# Altium integrated library NSC ADC.IntLib: 493 symbols (part 12 of 17)
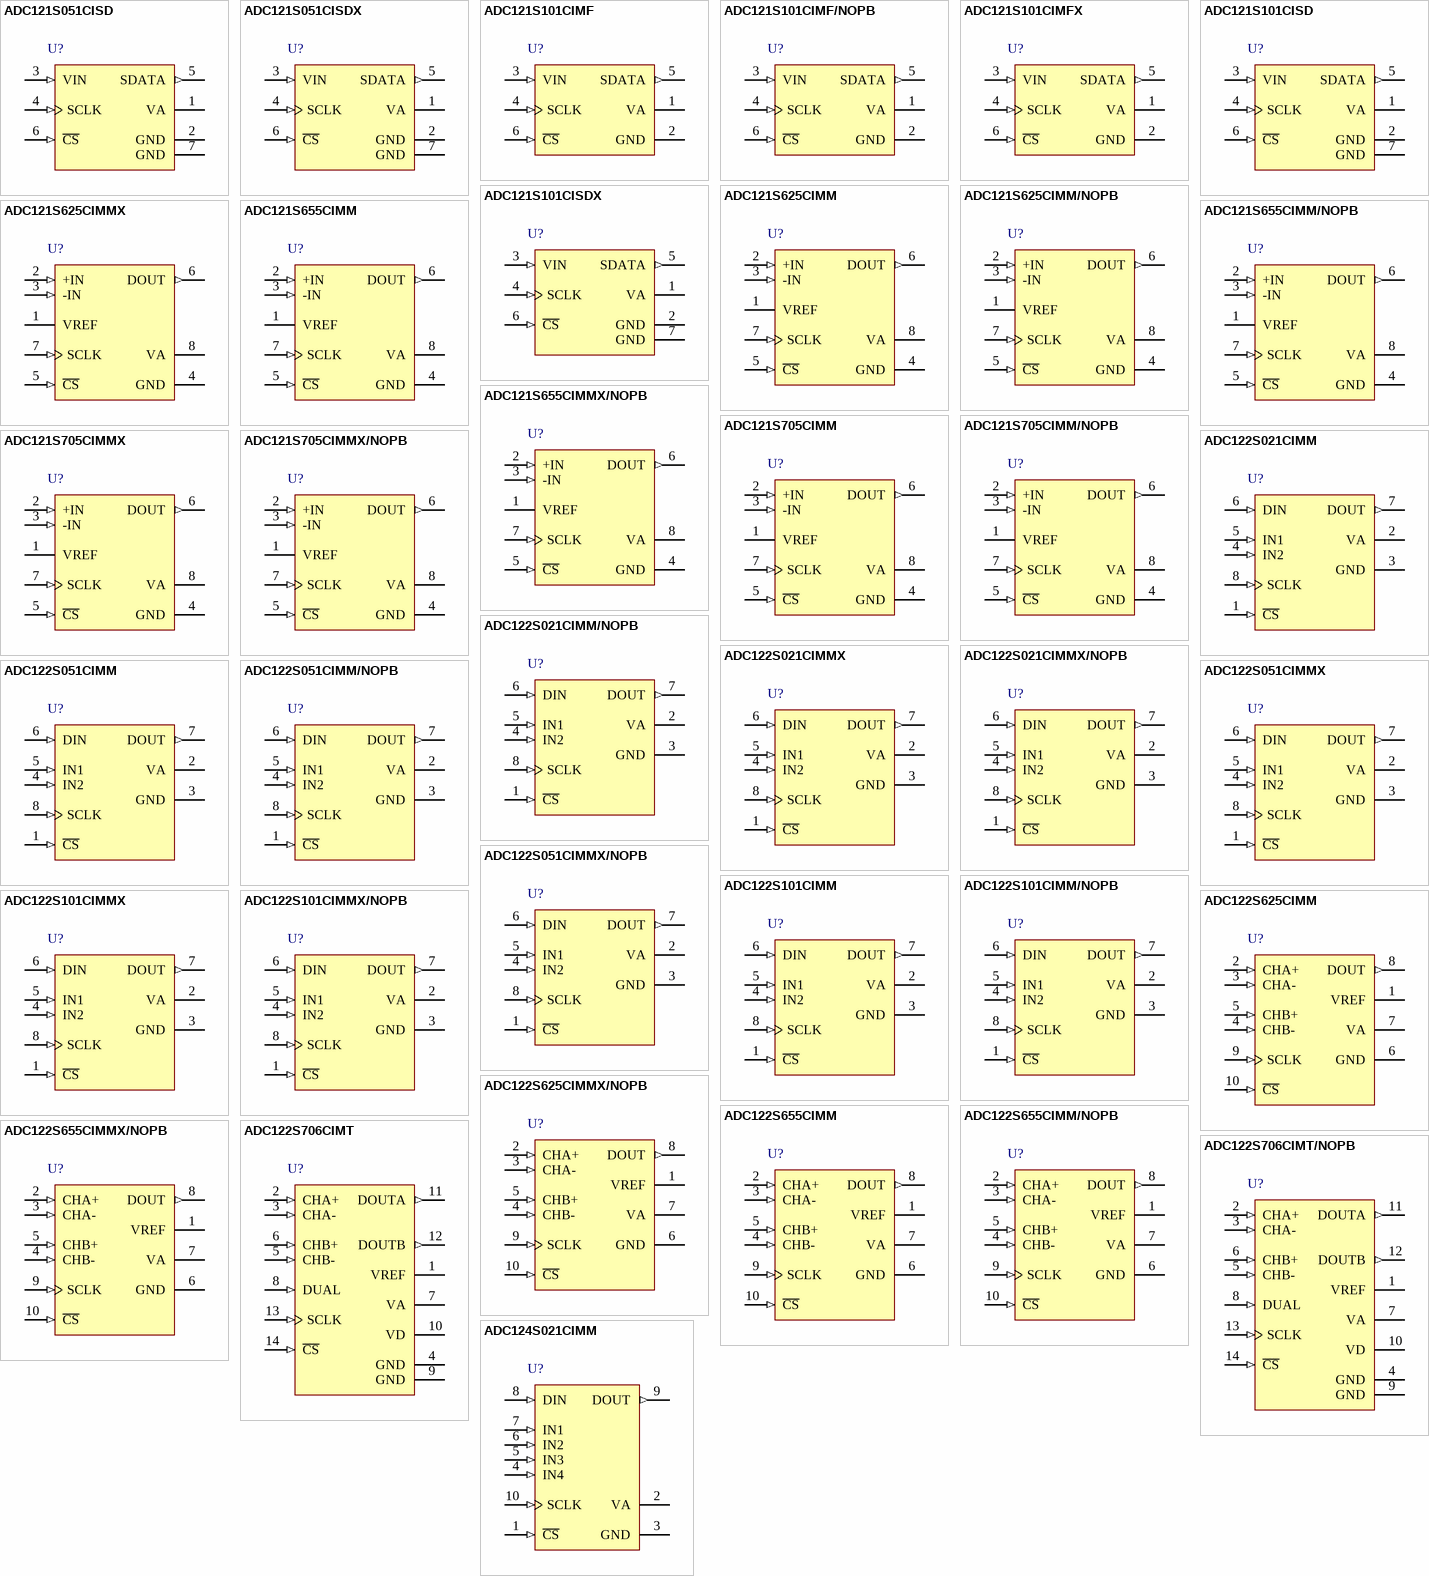
[diagram p47: symbols ADC121S051CISD to ADC124S021CIMM]

## ADC122S051CIMM
designator U?
2 Channel, 500 kSPS 12-Bit A/D Converter, 8-pin Mini SOIC; PartNumber: ADC122S051CIMM; Manufacturer: National Semiconductor; PackageTopMarking: ZXTT*X06C; PowerWise: Y; CompType: ADC IC; Published: 4-Dec-2008; DatasheetVersion: Jan-2010; PackageVersion: revF, Apr-2008; PackageReference: MUA08A; Publisher: Altium Limited; PackageDescription: MINI SOIC, .118 x .118 x .034in, 8 Lead, .0256in Pitch; Supplier 1: Farnell; Supplier Part Number 1: 1007995; RoHS: N; PinCount: 8; Code_JEDEC: MO-187-AA; ComponentLink1Description: ADC122S051 Datasheet; ComponentLink1URL: http://www.national.com/ds/AD/ADC122S051.pdf; ComponentLink2Description: ADC122S051 Web Page; ComponentLink2URL: http://www.national.com/pf/AD/ADC122S051.html; ComponentLink3Description: MUA08A Package Page; ComponentLink3URL: http://www.national.com/packaging/folders/mua08a.html
footprint MUA08A_N (TSOP, 8-Leads, Body 3x3mm, Pitch 0.65mm, IPC Medium Density)
footprint MUA08A_L (TSOP, 8-Leads, Body 3x3mm, Pitch 0.65mm, IPC High Density)
footprint MUA08A_M (TSOP, 8-Leads, Body 3x3mm, Pitch 0.65mm, IPC Low Density)
pins: 1 ~{CS} (in), 2 VA (power), 3 GND (power), 4 IN2 (in), 5 IN1 (in), 6 DIN (in), 7 DOUT (out), 8 SCLK (in)

## ADC122S051CIMM/NOPB
designator U?
2 Channel, 200 kSPS to 500 kSPS 12-Bit A/D Converter, 8-pin Mini SOIC, Pb-Free; PartNumber: ADC122S051CIMM/NOPB; Manufacturer: National Semiconductor; PackageTopMarking: ZXTT*X06C; PowerWise: Y; CompType: ADC IC; Published: 1-Mar-2010; DatasheetVersion: Jan-2010; PackageVersion: revF, Apr-2008; PackageReference: MUA08A; Publisher: Altium Limited; PackageDescription: MINI SOIC, .118 x .118 x .034in, 8 Lead, .0256in Pitch; Supplier 1: Digi-Key; Supplier Part Number 1: ADC122S051CIMMTR-ND; Supplier 2: Digi-Key; Supplier Part Number 2: ADC122S051CIMMCT-ND; Supplier 3: Digi-Key; Supplier Part Number 3: ADC122S051CIMMDKR-ND; RoHS: Y; PinCount: 8; Code_JEDEC: MO-187-AA; ComponentLink1Description: ADC122S051 Datasheet; ComponentLink1URL: http://www.national.com/ds/AD/ADC122S051.pdf; ComponentLink2Description: ADC122S051 Web Page; ComponentLink2URL: http://www.national.com/pf/AD/ADC122S051.html; ComponentLink3Description: MUA08A Package Page; ComponentLink3URL: http://www.national.com/packaging/folders/mua08a.html
footprint MUA08A_N (TSOP, 8-Leads, Body 3x3mm, Pitch 0.65mm, IPC Medium Density)
footprint MUA08A_L (TSOP, 8-Leads, Body 3x3mm, Pitch 0.65mm, IPC High Density)
footprint MUA08A_M (TSOP, 8-Leads, Body 3x3mm, Pitch 0.65mm, IPC Low Density)
pins: 1 ~{CS} (in), 2 VA (power), 3 GND (power), 4 IN2 (in), 5 IN1 (in), 6 DIN (in), 7 DOUT (out), 8 SCLK (in)

## ADC122S051CIMMX
designator U?
2 Channel, 200 kSPS to 500 kSPS 12-Bit A/D Converter, 8-pin Mini SOIC; PartNumber: ADC122S051CIMMX; Manufacturer: National Semiconductor; PackageTopMarking: ZXTT*X06C; PowerWise: Y; CompType: ADC IC; Published: 1-Mar-2010; DatasheetVersion: Jan-2010; PackageVersion: revF, Apr-2008; PackageReference: MUA08A; Publisher: Altium Limited; PackageDescription: MINI SOIC, .118 x .118 x .034in, 8 Lead, .0256in Pitch; RoHS: N; PinCount: 8; Code_JEDEC: MO-187-AA; ComponentLink1Description: ADC122S051 Datasheet; ComponentLink1URL: http://www.national.com/ds/AD/ADC122S051.pdf; ComponentLink2Description: ADC122S051 Web Page; ComponentLink2URL: http://www.national.com/pf/AD/ADC122S051.html; ComponentLink3Description: MUA08A Package Page; ComponentLink3URL: http://www.national.com/packaging/folders/mua08a.html
footprint MUA08A_N (TSOP, 8-Leads, Body 3x3mm, Pitch 0.65mm, IPC Medium Density)
footprint MUA08A_L (TSOP, 8-Leads, Body 3x3mm, Pitch 0.65mm, IPC High Density)
footprint MUA08A_M (TSOP, 8-Leads, Body 3x3mm, Pitch 0.65mm, IPC Low Density)
pins: 1 ~{CS} (in), 2 VA (power), 3 GND (power), 4 IN2 (in), 5 IN1 (in), 6 DIN (in), 7 DOUT (out), 8 SCLK (in)

## ADC122S051CIMMX/NOPB
designator U?
2 Channel, 200 kSPS to 500 kSPS 12-Bit A/D Converter, 8-pin Mini SOIC, Pb-Free; PartNumber: ADC122S051CIMMX/NOPB; Manufacturer: National Semiconductor; PackageTopMarking: ZXTT*X06C; PowerWise: Y; CompType: ADC IC; Published: 1-Mar-2010; DatasheetVersion: Jan-2010; PackageVersion: revF, Apr-2008; PackageReference: MUA08A; Publisher: Altium Limited; PackageDescription: MINI SOIC, .118 x .118 x .034in, 8 Lead, .0256in Pitch; Supplier 1: Digi-Key; Supplier Part Number 1: ADC122S051CIMMX-ND; RoHS: Y; PinCount: 8; Code_JEDEC: MO-187-AA; ComponentLink1Description: ADC122S051 Datasheet; ComponentLink1URL: http://www.national.com/ds/AD/ADC122S051.pdf; ComponentLink2Description: ADC122S051 Web Page; ComponentLink2URL: http://www.national.com/pf/AD/ADC122S051.html; ComponentLink3Description: MUA08A Package Page; ComponentLink3URL: http://www.national.com/packaging/folders/mua08a.html
footprint MUA08A_N (TSOP, 8-Leads, Body 3x3mm, Pitch 0.65mm, IPC Medium Density)
footprint MUA08A_L (TSOP, 8-Leads, Body 3x3mm, Pitch 0.65mm, IPC High Density)
footprint MUA08A_M (TSOP, 8-Leads, Body 3x3mm, Pitch 0.65mm, IPC Low Density)
pins: 1 ~{CS} (in), 2 VA (power), 3 GND (power), 4 IN2 (in), 5 IN1 (in), 6 DIN (in), 7 DOUT (out), 8 SCLK (in)

## ADC122S101CIMM
designator U?
2 Channel, 1MSPS 12-Bit A/D Converter, 8-pin Mini SOIC; PartNumber: ADC122S101CIMM; Manufacturer: National Semiconductor; PackageTopMarking: ZXTT*X24C; PowerWise: Y; CompType: ADC IC; Published: 4-Dec-2008; DatasheetVersion: Jan-2010; PackageVersion: revF, Apr-2008; PackageReference: MUA08A; Publisher: Altium Limited; PackageDescription: MINI SOIC, .118 x .118 x .034in, 8 Lead, .0256in Pitch; Supplier 1: Farnell; Supplier Part Number 1: 1007996; RoHS: N; PinCount: 8; Code_JEDEC: MO-187-AA; ComponentLink1Description: ADC122S101 Datasheet; ComponentLink1URL: http://www.national.com/ds/AD/ADC122S101.pdf; ComponentLink2Description: ADC122S101 Web Page; ComponentLink2URL: http://www.national.com/pf/AD/ADC122S101.html; ComponentLink3Description: MUA08A Package Page; ComponentLink3URL: http://www.national.com/packaging/folders/mua08a.html
footprint MUA08A_N (TSOP, 8-Leads, Body 3x3mm, Pitch 0.65mm, IPC Medium Density)
footprint MUA08A_L (TSOP, 8-Leads, Body 3x3mm, Pitch 0.65mm, IPC High Density)
footprint MUA08A_M (TSOP, 8-Leads, Body 3x3mm, Pitch 0.65mm, IPC Low Density)
pins: 1 ~{CS} (in), 2 VA (power), 3 GND (power), 4 IN2 (in), 5 IN1 (in), 6 DIN (in), 7 DOUT (out), 8 SCLK (in)

## ADC122S101CIMM/NOPB
designator U?
2 Channel, 500 kSPS to 1 MSPS 12-Bit A/D Converter, 8-pin Mini SOIC, Pb-Free; PartNumber: ADC122S101CIMM/NOPB; Manufacturer: National Semiconductor; PackageTopMarking: ZXTT*X24C; PowerWise: Y; CompType: ADC IC; Published: 1-Mar-2010; DatasheetVersion: Jan-2010; PackageVersion: revF, Apr-2008; PackageReference: MUA08A; Publisher: Altium Limited; PackageDescription: MINI SOIC, .118 x .118 x .034in, 8 Lead, .0256in Pitch; Supplier 1: Digi-Key; Supplier Part Number 1: ADC122S101CIMMTR-ND; Supplier 2: Digi-Key; Supplier Part Number 2: ADC122S101CIMMCT-ND; Supplier 3: Digi-Key; Supplier Part Number 3: ADC122S101CIMMDKR-ND; Supplier 4: Farnell; Supplier Part Number 4: 1149935; RoHS: Y; PinCount: 8; Code_JEDEC: MO-187-AA; ComponentLink1Description: ADC122S101 Datasheet; ComponentLink1URL: http://www.national.com/ds/AD/ADC122S101.pdf; ComponentLink2Description: ADC122S101 Web Page; ComponentLink2URL: http://www.national.com/pf/AD/ADC122S101.html; ComponentLink3Description: MUA08A Package Page; ComponentLink3URL: http://www.national.com/packaging/folders/mua08a.html
footprint MUA08A_N (TSOP, 8-Leads, Body 3x3mm, Pitch 0.65mm, IPC Medium Density)
footprint MUA08A_L (TSOP, 8-Leads, Body 3x3mm, Pitch 0.65mm, IPC High Density)
footprint MUA08A_M (TSOP, 8-Leads, Body 3x3mm, Pitch 0.65mm, IPC Low Density)
pins: 1 ~{CS} (in), 2 VA (power), 3 GND (power), 4 IN2 (in), 5 IN1 (in), 6 DIN (in), 7 DOUT (out), 8 SCLK (in)

## ADC122S101CIMMX
designator U?
2 Channel, 500 kSPS to 1 MSPS 12-Bit A/D Converter, 8-pin Mini SOIC; PartNumber: ADC122S101CIMMX; Manufacturer: National Semiconductor; PackageTopMarking: ZXTT*X24C; PowerWise: Y; CompType: ADC IC; Published: 1-Mar-2010; DatasheetVersion: Jan-2010; PackageVersion: revF, Apr-2008; PackageReference: MUA08A; Publisher: Altium Limited; PackageDescription: MINI SOIC, .118 x .118 x .034in, 8 Lead, .0256in Pitch; RoHS: N; PinCount: 8; Code_JEDEC: MO-187-AA; ComponentLink1Description: ADC122S101 Datasheet; ComponentLink1URL: http://www.national.com/ds/AD/ADC122S101.pdf; ComponentLink2Description: ADC122S101 Web Page; ComponentLink2URL: http://www.national.com/pf/AD/ADC122S101.html; ComponentLink3Description: MUA08A Package Page; ComponentLink3URL: http://www.national.com/packaging/folders/mua08a.html
footprint MUA08A_N (TSOP, 8-Leads, Body 3x3mm, Pitch 0.65mm, IPC Medium Density)
footprint MUA08A_L (TSOP, 8-Leads, Body 3x3mm, Pitch 0.65mm, IPC High Density)
footprint MUA08A_M (TSOP, 8-Leads, Body 3x3mm, Pitch 0.65mm, IPC Low Density)
pins: 1 ~{CS} (in), 2 VA (power), 3 GND (power), 4 IN2 (in), 5 IN1 (in), 6 DIN (in), 7 DOUT (out), 8 SCLK (in)

## ADC122S101CIMMX/NOPB
designator U?
2 Channel, 500 kSPS to 1 MSPS 12-Bit A/D Converter, 8-pin Mini SOIC, Pb-Free; PartNumber: ADC122S101CIMMX/NOPB; Manufacturer: National Semiconductor; PackageTopMarking: ZXTT*X24C; PowerWise: Y; CompType: ADC IC; Published: 1-Mar-2010; DatasheetVersion: Jan-2010; PackageVersion: revF, Apr-2008; PackageReference: MUA08A; Publisher: Altium Limited; PackageDescription: MINI SOIC, .118 x .118 x .034in, 8 Lead, .0256in Pitch; Supplier 1: Digi-Key; Supplier Part Number 1: ADC122S101CIMMX-ND; RoHS: Y; PinCount: 8; Code_JEDEC: MO-187-AA; ComponentLink1Description: ADC122S101 Datasheet; ComponentLink1URL: http://www.national.com/ds/AD/ADC122S101.pdf; ComponentLink2Description: ADC122S101 Web Page; ComponentLink2URL: http://www.national.com/pf/AD/ADC122S101.html; ComponentLink3Description: MUA08A Package Page; ComponentLink3URL: http://www.national.com/packaging/folders/mua08a.html
footprint MUA08A_N (TSOP, 8-Leads, Body 3x3mm, Pitch 0.65mm, IPC Medium Density)
footprint MUA08A_L (TSOP, 8-Leads, Body 3x3mm, Pitch 0.65mm, IPC High Density)
footprint MUA08A_M (TSOP, 8-Leads, Body 3x3mm, Pitch 0.65mm, IPC Low Density)
pins: 1 ~{CS} (in), 2 VA (power), 3 GND (power), 4 IN2 (in), 5 IN1 (in), 6 DIN (in), 7 DOUT (out), 8 SCLK (in)

## ADC122S625CIMM
designator U?
Dual 12-Bit, 50 kSPS to 200 kSPS, Simultaneous Sampling A/D Converter, 10-pin MSOP; PartNumber: ADC122S625CIMM; Manufacturer: National Semiconductor; PackageTopMarking: ZXTT*X35C; PowerWise: N; CompType: ADC IC; Published: 4-Dec-2008; DatasheetVersion: Feb-2008; PackageVersion: revB, Jul-2003; PackageReference: MUB10A; Publisher: Altium Limited; PackageDescription: Mini-SO, Molded, .118 x .118 x .034in Body, 10 Lead, .0197in Pitch; RoHS: Y; PinCount: 10; Code_JEDEC: MO-187-BA; ComponentLink1Description: ADC122S625 Datasheet; ComponentLink1URL: http://www.national.com/ds/AD/ADC122S625.pdf; ComponentLink2Description: ADC122S625 Web Page; ComponentLink2URL: http://www.national.com/pf/AD/ADC122S625.html; ComponentLink3Description: MUB10A Package Page; ComponentLink3URL: http://www.national.com/packaging/folders/mub10a.html
footprint MUB10A_N (TSSOP, 10-Leads, Body 3x3mm, Pitch 0.5mm, IPC Medium Density)
footprint MUB10A_L (TSSOP, 10-Leads, Body 3x3mm, Pitch 0.5mm, IPC High Density)
footprint MUB10A_M (TSSOP, 10-Leads, Body 3x3mm, Pitch 0.5mm, IPC Low Density)
pins: 1 VREF (power), 2 CHA+ (in), 3 CHA- (in), 4 CHB- (in), 5 CHB+ (in), 6 GND (power), 7 VA (power), 8 DOUT (out), 9 SCLK (in), 10 ~{CS} (in)

## ADC122S625CIMMX/NOPB
designator U?
Dual 12-Bit, 50 kSPS to 200 kSPS, Simultaneous Sampling A/D Converter, 10-pin Mini SOIC, Pb-Free; PartNumber: ADC122S625CIMMX/NOPB; Manufacturer: National Semiconductor; PackageTopMarking: ZXTT*X35C; PowerWise: N; CompType: ADC IC; Published: 1-Mar-2010; DatasheetVersion: Feb-2008; PackageVersion: revB, Jul-2003; PackageReference: MUB10A; Publisher: Altium Limited; PackageDescription: Mini-SO, Molded, .118 x .118 x .034in Body, 10 Lead, .0197in Pitch; Supplier 1: Digi-Key; Supplier Part Number 1: ADC122S625CIMMX-ND; RoHS: Y; PinCount: 10; Code_JEDEC: MO-187-BA; ComponentLink1Description: ADC122S625 Datasheet; ComponentLink1URL: http://www.national.com/ds/AD/ADC122S625.pdf; ComponentLink2Description: ADC122S625 Web Page; ComponentLink2URL: http://www.national.com/pf/AD/ADC122S625.html; ComponentLink3Description: MUB10A Package Page; ComponentLink3URL: http://www.national.com/packaging/folders/mub10a.html
footprint MUB10A_N (TSSOP, 10-Leads, Body 3x3mm, Pitch 0.5mm, IPC Medium Density)
footprint MUB10A_L (TSSOP, 10-Leads, Body 3x3mm, Pitch 0.5mm, IPC High Density)
footprint MUB10A_M (TSSOP, 10-Leads, Body 3x3mm, Pitch 0.5mm, IPC Low Density)
pins: 1 VREF (power), 2 CHA+ (in), 3 CHA- (in), 4 CHB- (in), 5 CHB+ (in), 6 GND (power), 7 VA (power), 8 DOUT (out), 9 SCLK (in), 10 ~{CS} (in)

## ADC122S655CIMM
designator U?
Dual 12-Bit, 200 kSPS to 500 kSPS, Simultaneous Sampling A/D Converter, 10-pin MSOP; PartNumber: ADC122S655CIMM; Manufacturer: National Semiconductor; PackageTopMarking: ZXTT*X96C; PowerWise: N; CompType: ADC IC; Published: 4-Dec-2008; DatasheetVersion: Feb-2008; PackageVersion: revB, Jul-2003; PackageReference: MUB10A; Publisher: Altium Limited; PackageDescription: Mini-SO, Molded, .118 x .118 x .034in Body, 10 Lead, .0197in Pitch; RoHS: Y; PinCount: 10; Code_JEDEC: MO-187-BA; ComponentLink1Description: ADC122S655 Datasheet; ComponentLink1URL: http://www.national.com/ds/AD/ADC122S655.pdf; ComponentLink2Description: ADC122S655 Web Page; ComponentLink2URL: http://www.national.com/pf/AD/ADC122S655.html; ComponentLink3Description: MUB10A Package Page; ComponentLink3URL: http://www.national.com/packaging/folders/mub10a.html
footprint MUB10A_N (TSSOP, 10-Leads, Body 3x3mm, Pitch 0.5mm, IPC Medium Density)
footprint MUB10A_L (TSSOP, 10-Leads, Body 3x3mm, Pitch 0.5mm, IPC High Density)
footprint MUB10A_M (TSSOP, 10-Leads, Body 3x3mm, Pitch 0.5mm, IPC Low Density)
pins: 1 VREF (power), 2 CHA+ (in), 3 CHA- (in), 4 CHB- (in), 5 CHB+ (in), 6 GND (power), 7 VA (power), 8 DOUT (out), 9 SCLK (in), 10 ~{CS} (in)

## ADC122S655CIMM/NOPB
designator U?
Dual 12-Bit, 200 kSPS to 500 kSPS, Simultaneous Sampling A/D Converter, 10-pin Mini SOIC, Pb-Free; PartNumber: ADC122S655CIMM/NOPB; Manufacturer: National Semiconductor; PackageTopMarking: ZXTT*X96C; PowerWise: N; CompType: ADC IC; Published: 1-Mar-2010; DatasheetVersion: Feb-2008; PackageVersion: revB, Jul-2003; PackageReference: MUB10A; Publisher: Altium Limited; PackageDescription: Mini-SO, Molded, .118 x .118 x .034in Body, 10 Lead, .0197in Pitch; Supplier 1: Digi-Key; Supplier Part Number 1: ADC122S655CIMMTR-ND; Supplier 2: Digi-Key; Supplier Part Number 2: ADC122S655CIMMCT-ND; Supplier 3: Digi-Key; Supplier Part Number 3: ADC122S655CIMMDKR-ND; Supplier 4: Farnell; Supplier Part Number 4: 1674015; RoHS: Y; PinCount: 10; Code_JEDEC: MO-187-BA; ComponentLink1Description: ADC122S655 Datasheet; ComponentLink1URL: http://www.national.com/ds/AD/ADC122S655.pdf; ComponentLink2Description: ADC122S655 Web Page; ComponentLink2URL: http://www.national.com/pf/AD/ADC122S655.html; ComponentLink3Description: MUB10A Package Page; ComponentLink3URL: http://www.national.com/packaging/folders/mub10a.html
footprint MUB10A_N (TSSOP, 10-Leads, Body 3x3mm, Pitch 0.5mm, IPC Medium Density)
footprint MUB10A_L (TSSOP, 10-Leads, Body 3x3mm, Pitch 0.5mm, IPC High Density)
footprint MUB10A_M (TSSOP, 10-Leads, Body 3x3mm, Pitch 0.5mm, IPC Low Density)
pins: 1 VREF (power), 2 CHA+ (in), 3 CHA- (in), 4 CHB- (in), 5 CHB+ (in), 6 GND (power), 7 VA (power), 8 DOUT (out), 9 SCLK (in), 10 ~{CS} (in)

## ADC122S655CIMMX/NOPB
designator U?
Dual 12-Bit, 200 kSPS to 500 kSPS, Simultaneous Sampling A/D Converter, 10-pin Mini SOIC, Pb-Free; PartNumber: ADC122S655CIMMX/NOPB; Manufacturer: National Semiconductor; PackageTopMarking: ZXTT*X96C; PowerWise: N; CompType: ADC IC; Published: 1-Mar-2010; DatasheetVersion: Feb-2008; PackageVersion: revB, Jul-2003; PackageReference: MUB10A; Publisher: Altium Limited; PackageDescription: Mini-SO, Molded, .118 x .118 x .034in Body, 10 Lead, .0197in Pitch; Supplier 1: Digi-Key; Supplier Part Number 1: ADC122S655CIMMX-ND; RoHS: Y; PinCount: 10; Code_JEDEC: MO-187-BA; ComponentLink1Description: ADC122S655 Datasheet; ComponentLink1URL: http://www.national.com/ds/AD/ADC122S655.pdf; ComponentLink2Description: ADC122S655 Web Page; ComponentLink2URL: http://www.national.com/pf/AD/ADC122S655.html; ComponentLink3Description: MUB10A Package Page; ComponentLink3URL: http://www.national.com/packaging/folders/mub10a.html
footprint MUB10A_N (TSSOP, 10-Leads, Body 3x3mm, Pitch 0.5mm, IPC Medium Density)
footprint MUB10A_L (TSSOP, 10-Leads, Body 3x3mm, Pitch 0.5mm, IPC High Density)
footprint MUB10A_M (TSSOP, 10-Leads, Body 3x3mm, Pitch 0.5mm, IPC Low Density)
pins: 1 VREF (power), 2 CHA+ (in), 3 CHA- (in), 4 CHB- (in), 5 CHB+ (in), 6 GND (power), 7 VA (power), 8 DOUT (out), 9 SCLK (in), 10 ~{CS} (in)

## ADC122S706CIMT
designator U?
Dual 12-Bit, 500 kSPS to 1 MSPS, Simultaneous Sampling A/D Converter, 14-pin TSSOP; PartNumber: ADC122S706CIMT; Manufacturer: National Semiconductor; PackageTopMarking: NSUZXYTT*2S706*CIMT; PowerWise: N; CompType: ADC IC; Published: 4-Dec-2008; DatasheetVersion: Nov-2007; PackageVersion: revD, Jun-2003; PackageReference: MTC14; Publisher: Altium Limited; PackageDescription: Molded TSSOP, JEDEC, 5 x 4.4 x 0.9mm Body, 14 Lead, 0.65mm Pitch; Supplier 1: Farnell; Supplier Part Number 1: 1535368; RoHS: Y; PinCount: 14; Code_JEDEC: MO-153-AB-1; ComponentLink1Description: ADC122S706 Datasheet; ComponentLink1URL: http://www.national.com/ds/AD/ADC122S706.pdf; ComponentLink2Description: ADC122S706 Web Page; ComponentLink2URL: http://www.national.com/pf/AD/ADC122S706.html; ComponentLink3Description: MTC14 Package Page; ComponentLink3URL: http://www.national.com/packaging/folders/mtc14.html
footprint MTC14_N (TSOP, 14-Leads, Body 5x4.4mm, Pitch 0.65mm, IPC Medium Density)
footprint MTC14_L (TSOP, 14-Leads, Body 5x4.4mm, Pitch 0.65mm, IPC High Density)
footprint MTC14_M (TSOP, 14-Leads, Body 5x4.4mm, Pitch 0.65mm, IPC Low Density)
pins: 1 VREF (power), 2 CHA+ (in), 3 CHA- (in), 4 GND (power), 5 CHB- (in), 6 CHB+ (in), 7 VA (power), 8 DUAL (in), 9 GND (power), 10 VD (power), 11 DOUTA (out), 12 DOUTB (out), 13 SCLK (in), 14 ~{CS} (in)

## ADC122S706CIMT/NOPB
designator U?
Dual 12-Bit, 500 kSPS to 1 MSPS, Simultaneous Sampling A/D Converter, 14-pin TSSOP, Pb-Free; PartNumber: ADC122S706CIMT/NOPB; Manufacturer: National Semiconductor; PackageTopMarking: NSUZXYTT*2S706*CIMT; PowerWise: N; CompType: ADC IC; Published: 1-Mar-2010; DatasheetVersion: Nov-2007; PackageVersion: revD, Jun-2003; PackageReference: MTC14; Publisher: Altium Limited; PackageDescription: Molded TSSOP, JEDEC, 5 x 4.4 x 0.9mm Body, 14 Lead, 0.65mm Pitch; Supplier 1: Digi-Key; Supplier Part Number 1: ADC122S706CIMT-ND; RoHS: Y; PinCount: 14; Code_JEDEC: MO-153-AB-1; ComponentLink1Description: ADC122S706 Datasheet; ComponentLink1URL: http://www.national.com/ds/AD/ADC122S706.pdf; ComponentLink2Description: ADC122S706 Web Page; ComponentLink2URL: http://www.national.com/pf/AD/ADC122S706.html; ComponentLink3Description: MTC14 Package Page; ComponentLink3URL: http://www.national.com/packaging/folders/mtc14.html
footprint MTC14_N (TSOP, 14-Leads, Body 5x4.4mm, Pitch 0.65mm, IPC Medium Density)
footprint MTC14_L (TSOP, 14-Leads, Body 5x4.4mm, Pitch 0.65mm, IPC High Density)
footprint MTC14_M (TSOP, 14-Leads, Body 5x4.4mm, Pitch 0.65mm, IPC Low Density)
pins: 1 VREF (power), 2 CHA+ (in), 3 CHA- (in), 4 GND (power), 5 CHB- (in), 6 CHB+ (in), 7 VA (power), 8 DUAL (in), 9 GND (power), 10 VD (power), 11 DOUTA (out), 12 DOUTB (out), 13 SCLK (in), 14 ~{CS} (in)

## ADC124S021CIMM
designator U?
4 Channel, 200 kSPS, 12-Bit A/D Converter, 10-pin MSOP; PartNumber: ADC124S021CIMM; Manufacturer: National Semiconductor; PackageTopMarking: ZXTT*X21C; PowerWise: Y; CompType: ADC IC; Published: 4-Dec-2008; DatasheetVersion: Feb-2010; PackageVersion: revB, Jul-2003; PackageReference: MUB10A; Publisher: Altium Limited; PackageDescription: Mini-SO, Molded, .118 x .118 x .034in Body, 10 Lead, .0197in Pitch; Supplier 1: Farnell; Supplier Part Number 1: 1007997; RoHS: N; PinCount: 10; Code_JEDEC: MO-187-BA; ComponentLink1Description: ADC124S021 Datasheet; ComponentLink1URL: http://www.national.com/ds/AD/ADC124S021.pdf; ComponentLink2Description: ADC124S021 Web Page; ComponentLink2URL: http://www.national.com/pf/AD/ADC124S021.html; ComponentLink3Description: MUB10A Package Page; ComponentLink3URL: http://www.national.com/packaging/folders/mub10a.html
footprint MUB10A_N (TSSOP, 10-Leads, Body 3x3mm, Pitch 0.5mm, IPC Medium Density)
footprint MUB10A_L (TSSOP, 10-Leads, Body 3x3mm, Pitch 0.5mm, IPC High Density)
footprint MUB10A_M (TSSOP, 10-Leads, Body 3x3mm, Pitch 0.5mm, IPC Low Density)
pins: 1 ~{CS} (in), 2 VA (power), 3 GND (power), 4 IN4 (in), 5 IN3 (in), 6 IN2 (in), 7 IN1 (in), 8 DIN (in), 9 DOUT (out), 10 SCLK (in)

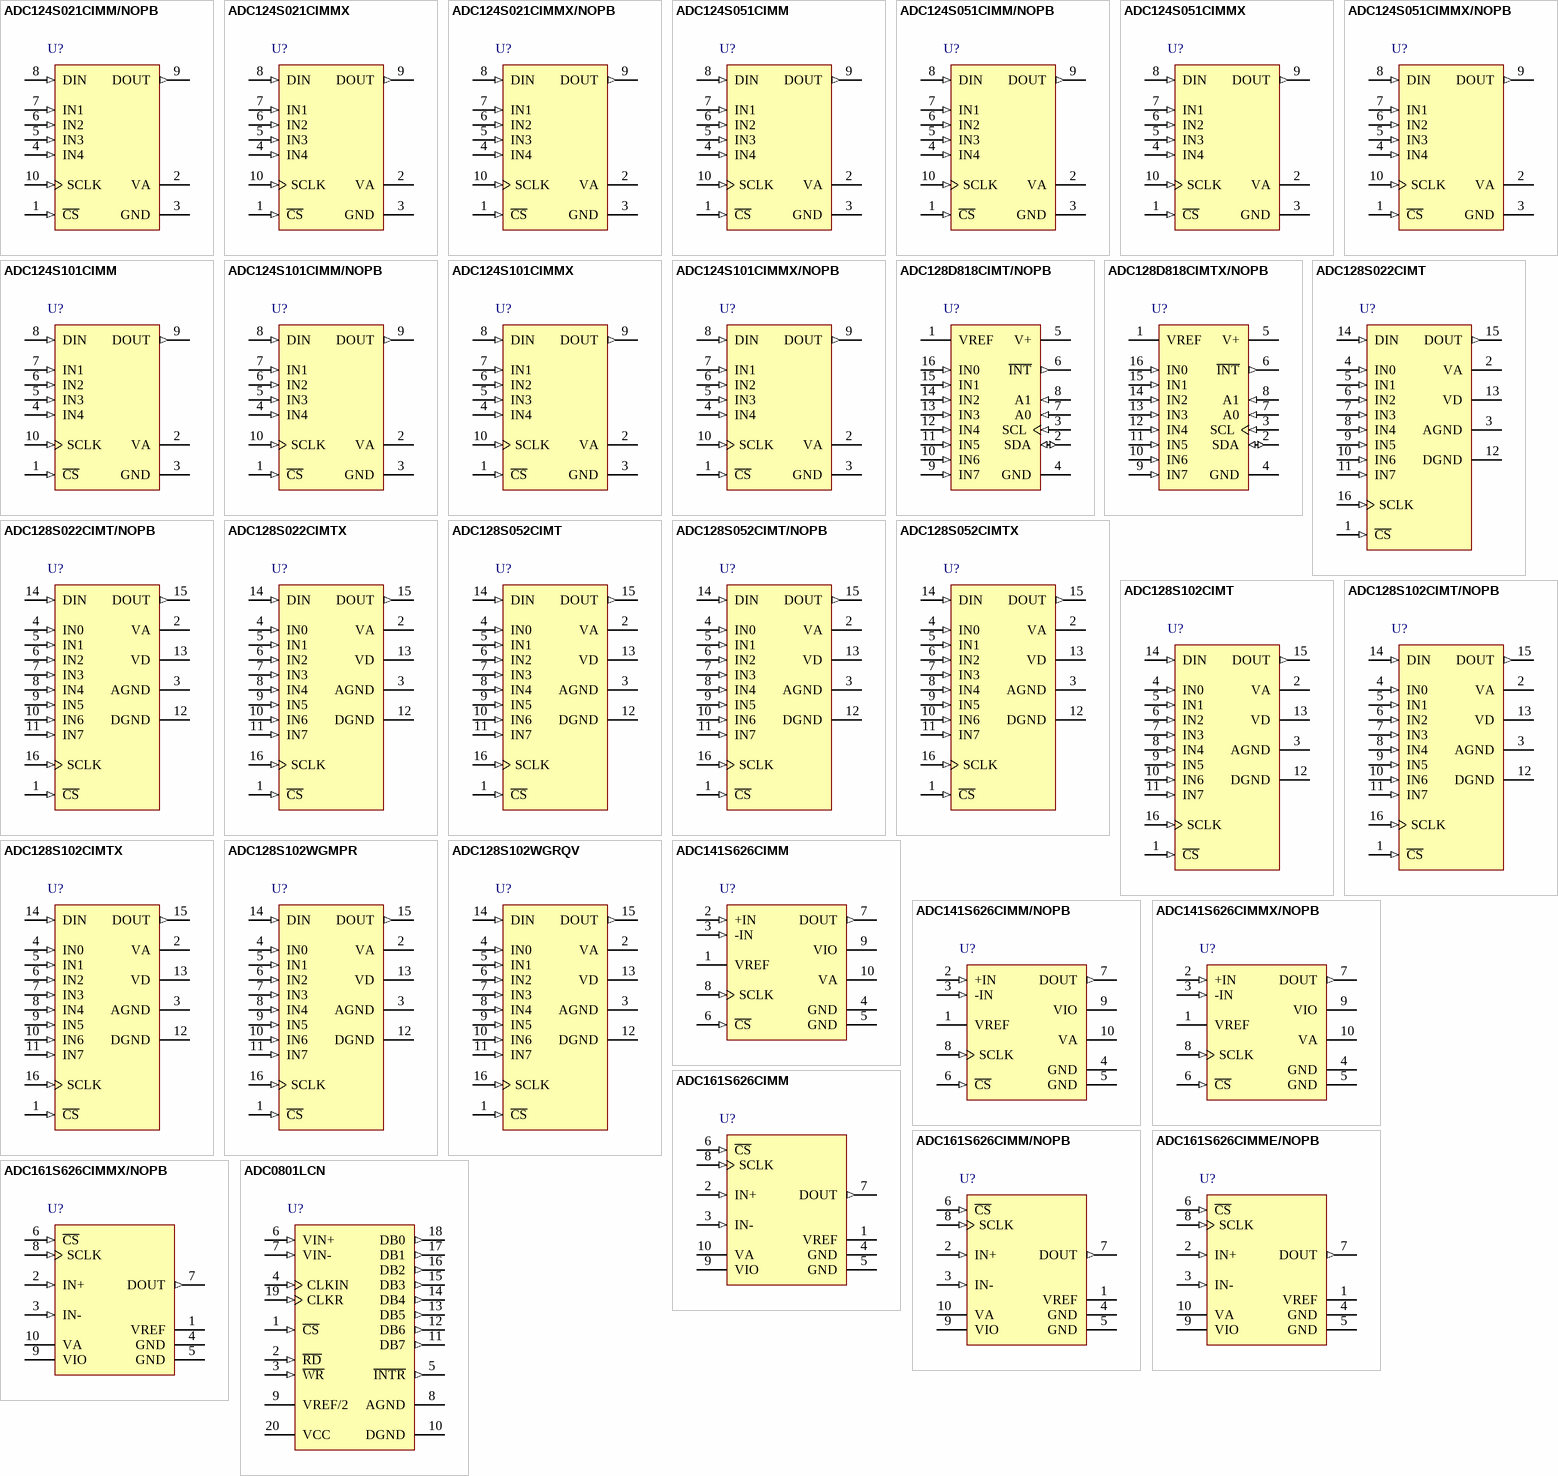
[diagram p27: symbols ADC124S021CIMM/NOPB to ADC0801LCN]

## ADC124S021CIMM/NOPB
designator U?
4 Channel, 50 kSPS to 200 kSPS, 12-Bit A/D Converter, 10-pin Mini SOIC, Pb-Free; PartNumber: ADC124S021CIMM/NOPB; Manufacturer: National Semiconductor; PackageTopMarking: ZXTT*X21C; PowerWise: Y; CompType: ADC IC; Published: 1-Mar-2010; DatasheetVersion: Feb-2010; PackageVersion: revB, Jul-2003; PackageReference: MUB10A; Publisher: Altium Limited; PackageDescription: Mini-SO, Molded, .118 x .118 x .034in Body, 10 Lead, .0197in Pitch; Supplier 1: Digi-Key; Supplier Part Number 1: ADC124S021CIMMTR-ND; Supplier 2: Digi-Key; Supplier Part Number 2: ADC124S021CIMMCT-ND; Supplier 3: Digi-Key; Supplier Part Number 3: ADC124S021CIMMDKR-ND; Supplier 4: Farnell; Supplier Part Number 4: 1673982; RoHS: Y; PinCount: 10; Code_JEDEC: MO-187-BA; ComponentLink1Description: ADC124S021 Datasheet; ComponentLink1URL: http://www.national.com/ds/AD/ADC124S021.pdf; ComponentLink2Description: ADC124S021 Web Page; ComponentLink2URL: http://www.national.com/pf/AD/ADC124S021.html; ComponentLink3Description: MUB10A Package Page; ComponentLink3URL: http://www.national.com/packaging/folders/mub10a.html
footprint MUB10A_N (TSSOP, 10-Leads, Body 3x3mm, Pitch 0.5mm, IPC Medium Density)
footprint MUB10A_L (TSSOP, 10-Leads, Body 3x3mm, Pitch 0.5mm, IPC High Density)
footprint MUB10A_M (TSSOP, 10-Leads, Body 3x3mm, Pitch 0.5mm, IPC Low Density)
pins: 1 ~{CS} (in), 2 VA (power), 3 GND (power), 4 IN4 (in), 5 IN3 (in), 6 IN2 (in), 7 IN1 (in), 8 DIN (in), 9 DOUT (out), 10 SCLK (in)

## ADC124S021CIMMX
designator U?
4 Channel, 50 kSPS to 200 kSPS, 12-Bit A/D Converter, 10-pin Mini SOIC; PartNumber: ADC124S021CIMMX; Manufacturer: National Semiconductor; PackageTopMarking: ZXTT*X21C; PowerWise: Y; CompType: ADC IC; Published: 1-Mar-2010; DatasheetVersion: Feb-2010; PackageVersion: revB, Jul-2003; PackageReference: MUB10A; Publisher: Altium Limited; PackageDescription: Mini-SO, Molded, .118 x .118 x .034in Body, 10 Lead, .0197in Pitch; RoHS: N; PinCount: 10; Code_JEDEC: MO-187-BA; ComponentLink1Description: ADC124S021 Datasheet; ComponentLink1URL: http://www.national.com/ds/AD/ADC124S021.pdf; ComponentLink2Description: ADC124S021 Web Page; ComponentLink2URL: http://www.national.com/pf/AD/ADC124S021.html; ComponentLink3Description: MUB10A Package Page; ComponentLink3URL: http://www.national.com/packaging/folders/mub10a.html
footprint MUB10A_N (TSSOP, 10-Leads, Body 3x3mm, Pitch 0.5mm, IPC Medium Density)
footprint MUB10A_L (TSSOP, 10-Leads, Body 3x3mm, Pitch 0.5mm, IPC High Density)
footprint MUB10A_M (TSSOP, 10-Leads, Body 3x3mm, Pitch 0.5mm, IPC Low Density)
pins: 1 ~{CS} (in), 2 VA (power), 3 GND (power), 4 IN4 (in), 5 IN3 (in), 6 IN2 (in), 7 IN1 (in), 8 DIN (in), 9 DOUT (out), 10 SCLK (in)

## ADC124S021CIMMX/NOPB
designator U?
4 Channel, 50 kSPS to 200 kSPS, 12-Bit A/D Converter, 10-pin Mini SOIC, Pb-Free; PartNumber: ADC124S021CIMMX/NOPB; Manufacturer: National Semiconductor; PackageTopMarking: ZXTT*X21C; PowerWise: Y; CompType: ADC IC; Published: 1-Mar-2010; DatasheetVersion: Feb-2010; PackageVersion: revB, Jul-2003; PackageReference: MUB10A; Publisher: Altium Limited; PackageDescription: Mini-SO, Molded, .118 x .118 x .034in Body, 10 Lead, .0197in Pitch; Supplier 1: Digi-Key; Supplier Part Number 1: ADC124S021CIMMX-ND; RoHS: Y; PinCount: 10; Code_JEDEC: MO-187-BA; ComponentLink1Description: ADC124S021 Datasheet; ComponentLink1URL: http://www.national.com/ds/AD/ADC124S021.pdf; ComponentLink2Description: ADC124S021 Web Page; ComponentLink2URL: http://www.national.com/pf/AD/ADC124S021.html; ComponentLink3Description: MUB10A Package Page; ComponentLink3URL: http://www.national.com/packaging/folders/mub10a.html
footprint MUB10A_N (TSSOP, 10-Leads, Body 3x3mm, Pitch 0.5mm, IPC Medium Density)
footprint MUB10A_L (TSSOP, 10-Leads, Body 3x3mm, Pitch 0.5mm, IPC High Density)
footprint MUB10A_M (TSSOP, 10-Leads, Body 3x3mm, Pitch 0.5mm, IPC Low Density)
pins: 1 ~{CS} (in), 2 VA (power), 3 GND (power), 4 IN4 (in), 5 IN3 (in), 6 IN2 (in), 7 IN1 (in), 8 DIN (in), 9 DOUT (out), 10 SCLK (in)

## ADC124S051CIMM
designator U?
4 Channel, 500 kSPS, 12-Bit A/D Converter, 10-pin MSOP; PartNumber: ADC124S051CIMM; Manufacturer: National Semiconductor; PackageTopMarking: ZXTT*X12C; PowerWise: Y; CompType: ADC IC; Published: 4-Dec-2008; DatasheetVersion: Feb-2010; PackageVersion: revB, Jul-2003; PackageReference: MUB10A; Publisher: Altium Limited; PackageDescription: Mini-SO, Molded, .118 x .118 x .034in Body, 10 Lead, .0197in Pitch; Supplier 1: Farnell; Supplier Part Number 1: 1007998; RoHS: N; PinCount: 10; Code_JEDEC: MO-187-BA; ComponentLink1Description: ADC124S051 Datasheet; ComponentLink1URL: http://www.national.com/ds/AD/ADC124S051.pdf; ComponentLink2Description: ADC124S051 Web Page; ComponentLink2URL: http://www.national.com/pf/AD/ADC124S051.html; ComponentLink3Description: MUB10A Package Page; ComponentLink3URL: http://www.national.com/packaging/folders/mub10a.html
footprint MUB10A_N (TSSOP, 10-Leads, Body 3x3mm, Pitch 0.5mm, IPC Medium Density)
footprint MUB10A_L (TSSOP, 10-Leads, Body 3x3mm, Pitch 0.5mm, IPC High Density)
footprint MUB10A_M (TSSOP, 10-Leads, Body 3x3mm, Pitch 0.5mm, IPC Low Density)
pins: 1 ~{CS} (in), 2 VA (power), 3 GND (power), 4 IN4 (in), 5 IN3 (in), 6 IN2 (in), 7 IN1 (in), 8 DIN (in), 9 DOUT (out), 10 SCLK (in)

## ADC124S051CIMM/NOPB
designator U?
4 Channel, 200 kSPS to 500 kSPS, 12-Bit A/D Converter, 10-pin Mini SOIC, Pb-Free; PartNumber: ADC124S051CIMM/NOPB; Manufacturer: National Semiconductor; PackageTopMarking: ZXTT*X12C; PowerWise: Y; CompType: ADC IC; Published: 1-Mar-2010; DatasheetVersion: Feb-2010; PackageVersion: revB, Jul-2003; PackageReference: MUB10A; Publisher: Altium Limited; PackageDescription: Mini-SO, Molded, .118 x .118 x .034in Body, 10 Lead, .0197in Pitch; Supplier 1: Digi-Key; Supplier Part Number 1: ADC124S051CIMMTR-ND; Supplier 2: Digi-Key; Supplier Part Number 2: ADC124S051CIMMCT-ND; Supplier 3: Digi-Key; Supplier Part Number 3: ADC124S051CIMMDKR-ND; RoHS: Y; PinCount: 10; Code_JEDEC: MO-187-BA; ComponentLink1Description: ADC124S051 Datasheet; ComponentLink1URL: http://www.national.com/ds/AD/ADC124S051.pdf; ComponentLink2Description: ADC124S051 Web Page; ComponentLink2URL: http://www.national.com/pf/AD/ADC124S051.html; ComponentLink3Description: MUB10A Package Page; ComponentLink3URL: http://www.national.com/packaging/folders/mub10a.html
footprint MUB10A_N (TSSOP, 10-Leads, Body 3x3mm, Pitch 0.5mm, IPC Medium Density)
footprint MUB10A_L (TSSOP, 10-Leads, Body 3x3mm, Pitch 0.5mm, IPC High Density)
footprint MUB10A_M (TSSOP, 10-Leads, Body 3x3mm, Pitch 0.5mm, IPC Low Density)
pins: 1 ~{CS} (in), 2 VA (power), 3 GND (power), 4 IN4 (in), 5 IN3 (in), 6 IN2 (in), 7 IN1 (in), 8 DIN (in), 9 DOUT (out), 10 SCLK (in)

## ADC124S051CIMMX
designator U?
4 Channel, 200 kSPS to 500 kSPS, 12-Bit A/D Converter, 10-pin Mini SOIC; PartNumber: ADC124S051CIMMX; Manufacturer: National Semiconductor; PackageTopMarking: ZXTT*X12C; PowerWise: Y; CompType: ADC IC; Published: 1-Mar-2010; DatasheetVersion: Feb-2010; PackageVersion: revB, Jul-2003; PackageReference: MUB10A; Publisher: Altium Limited; PackageDescription: Mini-SO, Molded, .118 x .118 x .034in Body, 10 Lead, .0197in Pitch; RoHS: N; PinCount: 10; Code_JEDEC: MO-187-BA; ComponentLink1Description: ADC124S051 Datasheet; ComponentLink1URL: http://www.national.com/ds/AD/ADC124S051.pdf; ComponentLink2Description: ADC124S051 Web Page; ComponentLink2URL: http://www.national.com/pf/AD/ADC124S051.html; ComponentLink3Description: MUB10A Package Page; ComponentLink3URL: http://www.national.com/packaging/folders/mub10a.html
footprint MUB10A_N (TSSOP, 10-Leads, Body 3x3mm, Pitch 0.5mm, IPC Medium Density)
footprint MUB10A_L (TSSOP, 10-Leads, Body 3x3mm, Pitch 0.5mm, IPC High Density)
footprint MUB10A_M (TSSOP, 10-Leads, Body 3x3mm, Pitch 0.5mm, IPC Low Density)
pins: 1 ~{CS} (in), 2 VA (power), 3 GND (power), 4 IN4 (in), 5 IN3 (in), 6 IN2 (in), 7 IN1 (in), 8 DIN (in), 9 DOUT (out), 10 SCLK (in)

## ADC124S051CIMMX/NOPB
designator U?
4 Channel, 200 kSPS to 500 kSPS, 12-Bit A/D Converter, 10-pin Mini SOIC, Pb-Free; PartNumber: ADC124S051CIMMX/NOPB; Manufacturer: National Semiconductor; PackageTopMarking: ZXTT*X12C; PowerWise: Y; CompType: ADC IC; Published: 1-Mar-2010; DatasheetVersion: Feb-2010; PackageVersion: revB, Jul-2003; PackageReference: MUB10A; Publisher: Altium Limited; PackageDescription: Mini-SO, Molded, .118 x .118 x .034in Body, 10 Lead, .0197in Pitch; Supplier 1: Digi-Key; Supplier Part Number 1: ADC124S051CIMMX-ND; RoHS: Y; PinCount: 10; Code_JEDEC: MO-187-BA; ComponentLink1Description: ADC124S051 Datasheet; ComponentLink1URL: http://www.national.com/ds/AD/ADC124S051.pdf; ComponentLink2Description: ADC124S051 Web Page; ComponentLink2URL: http://www.national.com/pf/AD/ADC124S051.html; ComponentLink3Description: MUB10A Package Page; ComponentLink3URL: http://www.national.com/packaging/folders/mub10a.html
footprint MUB10A_N (TSSOP, 10-Leads, Body 3x3mm, Pitch 0.5mm, IPC Medium Density)
footprint MUB10A_L (TSSOP, 10-Leads, Body 3x3mm, Pitch 0.5mm, IPC High Density)
footprint MUB10A_M (TSSOP, 10-Leads, Body 3x3mm, Pitch 0.5mm, IPC Low Density)
pins: 1 ~{CS} (in), 2 VA (power), 3 GND (power), 4 IN4 (in), 5 IN3 (in), 6 IN2 (in), 7 IN1 (in), 8 DIN (in), 9 DOUT (out), 10 SCLK (in)

## ADC124S101CIMM
designator U?
4 Channel, 1 MSPS, 12-Bit A/D Converter, 10-pin MSOP; PartNumber: ADC124S101CIMM; Manufacturer: National Semiconductor; PackageTopMarking: ZXTT*X27C; PowerWise: Y; CompType: ADC IC; Published: 4-Dec-2008; DatasheetVersion: Feb-2010; PackageVersion: revB, Jul-2003; PackageReference: MUB10A; Publisher: Altium Limited; PackageDescription: Mini-SO, Molded, .118 x .118 x .034in Body, 10 Lead, .0197in Pitch; Supplier 1: Farnell; Supplier Part Number 1: 1007999; RoHS: N; PinCount: 10; Code_JEDEC: MO-187-BA; ComponentLink1Description: ADC124S101 Datasheet; ComponentLink1URL: http://www.national.com/ds/AD/ADC124S101.pdf; ComponentLink2Description: ADC124S101 Web Page; ComponentLink2URL: http://www.national.com/pf/AD/ADC124S101.html; ComponentLink3Description: MUB10A Package Page; ComponentLink3URL: http://www.national.com/packaging/folders/mub10a.html
footprint MUB10A_N (TSSOP, 10-Leads, Body 3x3mm, Pitch 0.5mm, IPC Medium Density)
footprint MUB10A_L (TSSOP, 10-Leads, Body 3x3mm, Pitch 0.5mm, IPC High Density)
footprint MUB10A_M (TSSOP, 10-Leads, Body 3x3mm, Pitch 0.5mm, IPC Low Density)
pins: 1 ~{CS} (in), 2 VA (power), 3 GND (power), 4 IN4 (in), 5 IN3 (in), 6 IN2 (in), 7 IN1 (in), 8 DIN (in), 9 DOUT (out), 10 SCLK (in)

## ADC124S101CIMM/NOPB
designator U?
4 Channel, 500 kSPS to 1 MSPS, 12-Bit A/D Converter, 10-pin Mini SOIC, Pb-Free; PartNumber: ADC124S101CIMM/NOPB; Manufacturer: National Semiconductor; PackageTopMarking: ZXTT*X27C; PowerWise: Y; CompType: ADC IC; Published: 1-Mar-2010; DatasheetVersion: Feb-2010; PackageVersion: revB, Jul-2003; PackageReference: MUB10A; Publisher: Altium Limited; PackageDescription: Mini-SO, Molded, .118 x .118 x .034in Body, 10 Lead, .0197in Pitch; Supplier 1: Digi-Key; Supplier Part Number 1: ADC124S101CIMMTR-ND; Supplier 2: Digi-Key; Supplier Part Number 2: ADC124S101CIMMCT-ND; Supplier 3: Digi-Key; Supplier Part Number 3: ADC124S101CIMMDKR-ND; Supplier 4: Farnell; Supplier Part Number 4: 1149936; RoHS: Y; PinCount: 10; Code_JEDEC: MO-187-BA; ComponentLink1Description: ADC124S101 Datasheet; ComponentLink1URL: http://www.national.com/ds/AD/ADC124S101.pdf; ComponentLink2Description: ADC124S101 Web Page; ComponentLink2URL: http://www.national.com/pf/AD/ADC124S101.html; ComponentLink3Description: MUB10A Package Page; ComponentLink3URL: http://www.national.com/packaging/folders/mub10a.html
footprint MUB10A_N (TSSOP, 10-Leads, Body 3x3mm, Pitch 0.5mm, IPC Medium Density)
footprint MUB10A_L (TSSOP, 10-Leads, Body 3x3mm, Pitch 0.5mm, IPC High Density)
footprint MUB10A_M (TSSOP, 10-Leads, Body 3x3mm, Pitch 0.5mm, IPC Low Density)
pins: 1 ~{CS} (in), 2 VA (power), 3 GND (power), 4 IN4 (in), 5 IN3 (in), 6 IN2 (in), 7 IN1 (in), 8 DIN (in), 9 DOUT (out), 10 SCLK (in)

## ADC124S101CIMMX
designator U?
4 Channel, 500 kSPS to 1 MSPS, 12-Bit A/D Converter, 10-pin Mini SOIC; PartNumber: ADC124S101CIMMX; Manufacturer: National Semiconductor; PackageTopMarking: ZXTT*X27C; PowerWise: Y; CompType: ADC IC; Published: 1-Mar-2010; DatasheetVersion: Feb-2010; PackageVersion: revB, Jul-2003; PackageReference: MUB10A; Publisher: Altium Limited; PackageDescription: Mini-SO, Molded, .118 x .118 x .034in Body, 10 Lead, .0197in Pitch; RoHS: N; PinCount: 10; Code_JEDEC: MO-187-BA; ComponentLink1Description: ADC124S101 Datasheet; ComponentLink1URL: http://www.national.com/ds/AD/ADC124S101.pdf; ComponentLink2Description: ADC124S101 Web Page; ComponentLink2URL: http://www.national.com/pf/AD/ADC124S101.html; ComponentLink3Description: MUB10A Package Page; ComponentLink3URL: http://www.national.com/packaging/folders/mub10a.html
footprint MUB10A_N (TSSOP, 10-Leads, Body 3x3mm, Pitch 0.5mm, IPC Medium Density)
footprint MUB10A_L (TSSOP, 10-Leads, Body 3x3mm, Pitch 0.5mm, IPC High Density)
footprint MUB10A_M (TSSOP, 10-Leads, Body 3x3mm, Pitch 0.5mm, IPC Low Density)
pins: 1 ~{CS} (in), 2 VA (power), 3 GND (power), 4 IN4 (in), 5 IN3 (in), 6 IN2 (in), 7 IN1 (in), 8 DIN (in), 9 DOUT (out), 10 SCLK (in)

## ADC124S101CIMMX/NOPB
designator U?
4 Channel, 500 kSPS to 1 MSPS, 12-Bit A/D Converter, 10-pin Mini SOIC, Pb-Free; PartNumber: ADC124S101CIMMX/NOPB; Manufacturer: National Semiconductor; PackageTopMarking: ZXTT*X27C; PowerWise: Y; CompType: ADC IC; Published: 1-Mar-2010; DatasheetVersion: Feb-2010; PackageVersion: revB, Jul-2003; PackageReference: MUB10A; Publisher: Altium Limited; PackageDescription: Mini-SO, Molded, .118 x .118 x .034in Body, 10 Lead, .0197in Pitch; Supplier 1: Digi-Key; Supplier Part Number 1: ADC124S101CIMMX-ND; RoHS: Y; PinCount: 10; Code_JEDEC: MO-187-BA; ComponentLink1Description: ADC124S101 Datasheet; ComponentLink1URL: http://www.national.com/ds/AD/ADC124S101.pdf; ComponentLink2Description: ADC124S101 Web Page; ComponentLink2URL: http://www.national.com/pf/AD/ADC124S101.html; ComponentLink3Description: MUB10A Package Page; ComponentLink3URL: http://www.national.com/packaging/folders/mub10a.html
footprint MUB10A_N (TSSOP, 10-Leads, Body 3x3mm, Pitch 0.5mm, IPC Medium Density)
footprint MUB10A_L (TSSOP, 10-Leads, Body 3x3mm, Pitch 0.5mm, IPC High Density)
footprint MUB10A_M (TSSOP, 10-Leads, Body 3x3mm, Pitch 0.5mm, IPC Low Density)
pins: 1 ~{CS} (in), 2 VA (power), 3 GND (power), 4 IN4 (in), 5 IN3 (in), 6 IN2 (in), 7 IN1 (in), 8 DIN (in), 9 DOUT (out), 10 SCLK (in)

## ADC128D818CIMT/NOPB
designator U?
12-Bit, 8-Channel, ADC System Monitor with Temperature Sensor, Internal/External Reference, and I2C Interface, 16 pin TSSOP, Pb-Free; PartNumber: ADC128D818CIMT/NOPB; Manufacturer: National Semiconductor; PackageTopMarking: NSUZXYTT*128D818*CIMT; PowerWise: N; CompType: ADC IC; Published: 1-Mar-2010; DatasheetVersion: Feb-2010; PackageVersion: revD, Jun-2003; PackageReference: MTC16; Publisher: Altium Limited; PackageDescription: Molded TSSOP, Jedec, 5 x 4.4 x 0.9mm Body, 16 Lead, 0.65mm Pitch; Supplier 1: Digi-Key; Supplier Part Number 1: ADC128D818CIMT-ND; Supplier 2: Farnell; Supplier Part Number 2: 1800187; RoHS: Y; PinCount: 16; Code_JEDEC: MO-153-AB; ComponentLink1Description: ADC128D818 Datasheet; ComponentLink1URL: http://www.national.com/ds/AD/ADC128D818.pdf; ComponentLink2Description: ADC128D818 Web Page; ComponentLink2URL: http://www.national.com/pf/AD/ADC128D818.html; ComponentLink3Description: MTC16 Package Page; ComponentLink3URL: http://www.national.com/packaging/folders/mtc16.html
footprint MTC16_N (TSOP, 16-Leads, Body 5x4.4mm, Pitch 0.65mm, IPC Medium Density)
footprint MTC16_L (TSOP, 16-Leads, Body 5x4.4mm, Pitch 0.65mm, IPC High Density)
footprint MTC16_M (TSOP, 16-Leads, Body 5x4.4mm, Pitch 0.65mm, IPC Low Density)
pins: 1 VREF (power), 2 SDA (io), 3 SCL (in), 4 GND (power), 5 V+ (power), 6 ~{INT} (out), 7 A0 (in), 8 A1 (in), 9 IN7 (in), 10 IN6 (in), 11 IN5 (in), 12 IN4 (in), 13 IN3 (in), 14 IN2 (in), 15 IN1 (in), 16 IN0 (in)

## ADC128D818CIMTX/NOPB
designator U?
12-Bit, 8-Channel, ADC System Monitor with Temperature Sensor, Internal/External Reference, and I2C Interface, 16 pin TSSOP, Pb-Free; PartNumber: ADC128D818CIMTX/NOPB; Manufacturer: National Semiconductor; PackageTopMarking: NSUZXYTT*128D818*CIMT; PowerWise: N; CompType: ADC IC; Published: 1-Mar-2010; DatasheetVersion: Feb-2010; PackageVersion: revD, Jun-2003; PackageReference: MTC16; Publisher: Altium Limited; PackageDescription: Molded TSSOP, Jedec, 5 x 4.4 x 0.9mm Body, 16 Lead, 0.65mm Pitch; Supplier 1: Digi-Key; Supplier Part Number 1: ADC128D818CIMTX-ND; RoHS: Y; PinCount: 16; Code_JEDEC: MO-153-AB; ComponentLink1Description: ADC128D818 Datasheet; ComponentLink1URL: http://www.national.com/ds/AD/ADC128D818.pdf; ComponentLink2Description: ADC128D818 Web Page; ComponentLink2URL: http://www.national.com/pf/AD/ADC128D818.html; ComponentLink3Description: MTC16 Package Page; ComponentLink3URL: http://www.national.com/packaging/folders/mtc16.html
footprint MTC16_N (TSOP, 16-Leads, Body 5x4.4mm, Pitch 0.65mm, IPC Medium Density)
footprint MTC16_L (TSOP, 16-Leads, Body 5x4.4mm, Pitch 0.65mm, IPC High Density)
footprint MTC16_M (TSOP, 16-Leads, Body 5x4.4mm, Pitch 0.65mm, IPC Low Density)
pins: 1 VREF (power), 2 SDA (io), 3 SCL (in), 4 GND (power), 5 V+ (power), 6 ~{INT} (out), 7 A0 (in), 8 A1 (in), 9 IN7 (in), 10 IN6 (in), 11 IN5 (in), 12 IN4 (in), 13 IN3 (in), 14 IN2 (in), 15 IN1 (in), 16 IN0 (in)

## ADC128S022CIMT
designator U?
8-Channel, 50 kSPS to 200 kSPS, 12-Bit A/D Converter, 16-pin TSSOP; PartNumber: ADC128S022CIMT; Manufacturer: National Semiconductor; PackageTopMarking: NSUZXYTT*128S022*CIMT; PowerWise: Y; CompType: ADC IC; Published: 4-Dec-2008; DatasheetVersion: Feb-2010; PackageVersion: revD, Jun-2003; PackageReference: MTC16; Publisher: Altium Limited; PackageDescription: Molded TSSOP, Jedec, 5 x 4.4 x 0.9mm Body, 16 Lead, 0.65mm Pitch; Supplier 1: Farnell; Supplier Part Number 1: 1250032; RoHS: N; PinCount: 16; Code_JEDEC: MO-153-AB; ComponentLink1Description: ADC128S022 Datasheet; ComponentLink1URL: http://www.national.com/ds/AD/ADC128S022.pdf; ComponentLink2Description: ADC128S022 Web Page; ComponentLink2URL: http://www.national.com/pf/AD/ADC128S022.html; ComponentLink3Description: MTC16 Package Page; ComponentLink3URL: http://www.national.com/packaging/folders/mtc16.html
footprint MTC16_N (TSOP, 16-Leads, Body 5x4.4mm, Pitch 0.65mm, IPC Medium Density)
footprint MTC16_L (TSOP, 16-Leads, Body 5x4.4mm, Pitch 0.65mm, IPC High Density)
footprint MTC16_M (TSOP, 16-Leads, Body 5x4.4mm, Pitch 0.65mm, IPC Low Density)
pins: 1 ~{CS} (in), 2 VA (power), 3 AGND (power), 4 IN0 (in), 5 IN1 (in), 6 IN2 (in), 7 IN3 (in), 8 IN4 (in), 9 IN5 (in), 10 IN6 (in), 11 IN7 (in), 12 DGND (power), 13 VD (power), 14 DIN (in), 15 DOUT (out), 16 SCLK (in)

## ADC128S022CIMT/NOPB
designator U?
8-Channel, 50 kSPS to 200 kSPS, 12-Bit A/D Converter, 16-pin TSSOP, Pb-Free; PartNumber: ADC128S022CIMT/NOPB; Manufacturer: National Semiconductor; PackageTopMarking: NSUZXYTT*128S022*CIMT; PowerWise: Y; CompType: ADC IC; Published: 1-Mar-2010; DatasheetVersion: Feb-2010; PackageVersion: revD, Jun-2003; PackageReference: MTC16; Publisher: Altium Limited; PackageDescription: Molded TSSOP, Jedec, 5 x 4.4 x 0.9mm Body, 16 Lead, 0.65mm Pitch; Supplier 1: Digi-Key; Supplier Part Number 1: ADC128S022CIMT-ND; Supplier 2: Farnell; Supplier Part Number 2: 1559763; RoHS: Y; PinCount: 16; Code_JEDEC: MO-153-AB; ComponentLink1Description: ADC128S022 Datasheet; ComponentLink1URL: http://www.national.com/ds/AD/ADC128S022.pdf; ComponentLink2Description: ADC128S022 Web Page; ComponentLink2URL: http://www.national.com/pf/AD/ADC128S022.html; ComponentLink3Description: MTC16 Package Page; ComponentLink3URL: http://www.national.com/packaging/folders/mtc16.html
footprint MTC16_N (TSOP, 16-Leads, Body 5x4.4mm, Pitch 0.65mm, IPC Medium Density)
footprint MTC16_L (TSOP, 16-Leads, Body 5x4.4mm, Pitch 0.65mm, IPC High Density)
footprint MTC16_M (TSOP, 16-Leads, Body 5x4.4mm, Pitch 0.65mm, IPC Low Density)
pins: 1 ~{CS} (in), 2 VA (power), 3 AGND (power), 4 IN0 (in), 5 IN1 (in), 6 IN2 (in), 7 IN3 (in), 8 IN4 (in), 9 IN5 (in), 10 IN6 (in), 11 IN7 (in), 12 DGND (power), 13 VD (power), 14 DIN (in), 15 DOUT (out), 16 SCLK (in)

## ADC128S022CIMTX
designator U?
8-Channel, 50 kSPS to 200 kSPS, 12-Bit A/D Converter, 16-pin TSSOP; PartNumber: ADC128S022CIMTX; Manufacturer: National Semiconductor; PackageTopMarking: NSUZXYTT*128S022*CIMT; PowerWise: Y; CompType: ADC IC; Published: 1-Mar-2010; DatasheetVersion: Feb-2010; PackageVersion: revD, Jun-2003; PackageReference: MTC16; Publisher: Altium Limited; PackageDescription: Molded TSSOP, Jedec, 5 x 4.4 x 0.9mm Body, 16 Lead, 0.65mm Pitch; RoHS: N; PinCount: 16; Code_JEDEC: MO-153-AB; ComponentLink1Description: ADC128S022 Datasheet; ComponentLink1URL: http://www.national.com/ds/AD/ADC128S022.pdf; ComponentLink2Description: ADC128S022 Web Page; ComponentLink2URL: http://www.national.com/pf/AD/ADC128S022.html; ComponentLink3Description: MTC16 Package Page; ComponentLink3URL: http://www.national.com/packaging/folders/mtc16.html
footprint MTC16_N (TSOP, 16-Leads, Body 5x4.4mm, Pitch 0.65mm, IPC Medium Density)
footprint MTC16_L (TSOP, 16-Leads, Body 5x4.4mm, Pitch 0.65mm, IPC High Density)
footprint MTC16_M (TSOP, 16-Leads, Body 5x4.4mm, Pitch 0.65mm, IPC Low Density)
pins: 1 ~{CS} (in), 2 VA (power), 3 AGND (power), 4 IN0 (in), 5 IN1 (in), 6 IN2 (in), 7 IN3 (in), 8 IN4 (in), 9 IN5 (in), 10 IN6 (in), 11 IN7 (in), 12 DGND (power), 13 VD (power), 14 DIN (in), 15 DOUT (out), 16 SCLK (in)

## ADC128S052CIMT
designator U?
8-Channel, 200 kSPS to 500 kSPS, 12-Bit A/D Converter, 16-pin TSSOP; PartNumber: ADC128S052CIMT; Manufacturer: National Semiconductor; PackageTopMarking: NSUZXYTT*128S052*CIMT; PowerWise: Y; CompType: ADC IC; Published: 4-Dec-2008; DatasheetVersion: Feb-2010; PackageVersion: revD, Jun-2003; PackageReference: MTC16; Publisher: Altium Limited; PackageDescription: Molded TSSOP, Jedec, 5 x 4.4 x 0.9mm Body, 16 Lead, 0.65mm Pitch; Supplier 1: Farnell; Supplier Part Number 1: 1250033; RoHS: N; PinCount: 16; Code_JEDEC: MO-153-AB; ComponentLink1Description: ADC128S052 Datasheet; ComponentLink1URL: http://www.national.com/ds/AD/ADC128S052.pdf; ComponentLink2Description: ADC128S052 Web Page; ComponentLink2URL: http://www.national.com/pf/AD/ADC128S052.html; ComponentLink3Description: MTC16 Package Page; ComponentLink3URL: http://www.national.com/packaging/folders/mtc16.html
footprint MTC16_N (TSOP, 16-Leads, Body 5x4.4mm, Pitch 0.65mm, IPC Medium Density)
footprint MTC16_L (TSOP, 16-Leads, Body 5x4.4mm, Pitch 0.65mm, IPC High Density)
footprint MTC16_M (TSOP, 16-Leads, Body 5x4.4mm, Pitch 0.65mm, IPC Low Density)
pins: 1 ~{CS} (in), 2 VA (power), 3 AGND (power), 4 IN0 (in), 5 IN1 (in), 6 IN2 (in), 7 IN3 (in), 8 IN4 (in), 9 IN5 (in), 10 IN6 (in), 11 IN7 (in), 12 DGND (power), 13 VD (power), 14 DIN (in), 15 DOUT (out), 16 SCLK (in)

## ADC128S052CIMT/NOPB
designator U?
8-Channel, 200 kSPS to 500 kSPS, 12-Bit A/D Converter, 16-pin TSSOP, Pb-Free; PartNumber: ADC128S052CIMT/NOPB; Manufacturer: National Semiconductor; PackageTopMarking: NSUZXYTT*128S052*CIMT; PowerWise: Y; CompType: ADC IC; Published: 1-Mar-2010; DatasheetVersion: Feb-2010; PackageVersion: revD, Jun-2003; PackageReference: MTC16; Publisher: Altium Limited; PackageDescription: Molded TSSOP, Jedec, 5 x 4.4 x 0.9mm Body, 16 Lead, 0.65mm Pitch; Supplier 1: Digi-Key; Supplier Part Number 1: ADC128S052CIMT-ND; RoHS: Y; PinCount: 16; Code_JEDEC: MO-153-AB; ComponentLink1Description: ADC128S052 Datasheet; ComponentLink1URL: http://www.national.com/ds/AD/ADC128S052.pdf; ComponentLink2Description: ADC128S052 Web Page; ComponentLink2URL: http://www.national.com/pf/AD/ADC128S052.html; ComponentLink3Description: MTC16 Package Page; ComponentLink3URL: http://www.national.com/packaging/folders/mtc16.html
footprint MTC16_N (TSOP, 16-Leads, Body 5x4.4mm, Pitch 0.65mm, IPC Medium Density)
footprint MTC16_L (TSOP, 16-Leads, Body 5x4.4mm, Pitch 0.65mm, IPC High Density)
footprint MTC16_M (TSOP, 16-Leads, Body 5x4.4mm, Pitch 0.65mm, IPC Low Density)
pins: 1 ~{CS} (in), 2 VA (power), 3 AGND (power), 4 IN0 (in), 5 IN1 (in), 6 IN2 (in), 7 IN3 (in), 8 IN4 (in), 9 IN5 (in), 10 IN6 (in), 11 IN7 (in), 12 DGND (power), 13 VD (power), 14 DIN (in), 15 DOUT (out), 16 SCLK (in)

## ADC128S052CIMTX
designator U?
8-Channel, 200 kSPS to 500 kSPS, 12-Bit A/D Converter, 16-pin TSSOP; PartNumber: ADC128S052CIMTX; Manufacturer: National Semiconductor; PackageTopMarking: NSUZXYTT*128S052*CIMT; PowerWise: Y; CompType: ADC IC; Published: 1-Mar-2010; DatasheetVersion: Feb-2010; PackageVersion: revD, Jun-2003; PackageReference: MTC16; Publisher: Altium Limited; PackageDescription: Molded TSSOP, Jedec, 5 x 4.4 x 0.9mm Body, 16 Lead, 0.65mm Pitch; RoHS: N; PinCount: 16; Code_JEDEC: MO-153-AB; ComponentLink1Description: ADC128S052 Datasheet; ComponentLink1URL: http://www.national.com/ds/AD/ADC128S052.pdf; ComponentLink2Description: ADC128S052 Web Page; ComponentLink2URL: http://www.national.com/pf/AD/ADC128S052.html; ComponentLink3Description: MTC16 Package Page; ComponentLink3URL: http://www.national.com/packaging/folders/mtc16.html
footprint MTC16_N (TSOP, 16-Leads, Body 5x4.4mm, Pitch 0.65mm, IPC Medium Density)
footprint MTC16_L (TSOP, 16-Leads, Body 5x4.4mm, Pitch 0.65mm, IPC High Density)
footprint MTC16_M (TSOP, 16-Leads, Body 5x4.4mm, Pitch 0.65mm, IPC Low Density)
pins: 1 ~{CS} (in), 2 VA (power), 3 AGND (power), 4 IN0 (in), 5 IN1 (in), 6 IN2 (in), 7 IN3 (in), 8 IN4 (in), 9 IN5 (in), 10 IN6 (in), 11 IN7 (in), 12 DGND (power), 13 VD (power), 14 DIN (in), 15 DOUT (out), 16 SCLK (in)

## ADC128S102CIMT
designator U?
8-Channel, 500 kSPS to 1 MSPS, 12-Bit A/D Converter, 16-pin TSSOP; PartNumber: ADC128S102CIMT; Manufacturer: National Semiconductor; PackageTopMarking: NSUZXYTT*128S102*CIMT; PowerWise: Y; CompType: ADC IC; Published: 4-Dec-2008; DatasheetVersion: Jul-2009; PackageVersion: revD, Jun-2003; PackageReference: MTC16; Publisher: Altium Limited; PackageDescription: Molded TSSOP, Jedec, 5 x 4.4 x 0.9mm Body, 16 Lead, 0.65mm Pitch; Supplier 1: Farnell; Supplier Part Number 1: 1286732; RoHS: N; PinCount: 16; Code_JEDEC: MO-153-AB; ComponentLink1Description: ADC128S102 Datasheet; ComponentLink1URL: http://www.national.com/ds/AD/ADC128S102.pdf; ComponentLink2Description: ADC128S102 Web Page; ComponentLink2URL: http://www.national.com/pf/AD/ADC128S102.html; ComponentLink3Description: MTC16 Package Page; ComponentLink3URL: http://www.national.com/packaging/folders/mtc16.html
footprint MTC16_N (TSOP, 16-Leads, Body 5x4.4mm, Pitch 0.65mm, IPC Medium Density)
footprint MTC16_L (TSOP, 16-Leads, Body 5x4.4mm, Pitch 0.65mm, IPC High Density)
footprint MTC16_M (TSOP, 16-Leads, Body 5x4.4mm, Pitch 0.65mm, IPC Low Density)
pins: 1 ~{CS} (in), 2 VA (power), 3 AGND (power), 4 IN0 (in), 5 IN1 (in), 6 IN2 (in), 7 IN3 (in), 8 IN4 (in), 9 IN5 (in), 10 IN6 (in), 11 IN7 (in), 12 DGND (power), 13 VD (power), 14 DIN (in), 15 DOUT (out), 16 SCLK (in)

## ADC128S102CIMT/NOPB
designator U?
8-Channel, 500 kSPS to 1 MSPS, 12-Bit A/D Converter, 16-pin TSSOP, Pb-Free; PartNumber: ADC128S102CIMT/NOPB; Manufacturer: National Semiconductor; PackageTopMarking: NSUZXYTT*128S102*CIMT; PowerWise: Y; CompType: ADC IC; Published: 1-Mar-2010; DatasheetVersion: Jul-2009; PackageVersion: revD, Jun-2003; PackageReference: MTC16; Publisher: Altium Limited; PackageDescription: Molded TSSOP, Jedec, 5 x 4.4 x 0.9mm Body, 16 Lead, 0.65mm Pitch; Supplier 1: Digi-Key; Supplier Part Number 1: ADC128S102CIMT-ND; Supplier 2: Farnell; Supplier Part Number 2: 1154748; RoHS: Y; PinCount: 16; Code_JEDEC: MO-153-AB; ComponentLink1Description: ADC128S102 Datasheet; ComponentLink1URL: http://www.national.com/ds/AD/ADC128S102.pdf; ComponentLink2Description: ADC128S102 Web Page; ComponentLink2URL: http://www.national.com/pf/AD/ADC128S102.html; ComponentLink3Description: MTC16 Package Page; ComponentLink3URL: http://www.national.com/packaging/folders/mtc16.html
footprint MTC16_N (TSOP, 16-Leads, Body 5x4.4mm, Pitch 0.65mm, IPC Medium Density)
footprint MTC16_L (TSOP, 16-Leads, Body 5x4.4mm, Pitch 0.65mm, IPC High Density)
footprint MTC16_M (TSOP, 16-Leads, Body 5x4.4mm, Pitch 0.65mm, IPC Low Density)
pins: 1 ~{CS} (in), 2 VA (power), 3 AGND (power), 4 IN0 (in), 5 IN1 (in), 6 IN2 (in), 7 IN3 (in), 8 IN4 (in), 9 IN5 (in), 10 IN6 (in), 11 IN7 (in), 12 DGND (power), 13 VD (power), 14 DIN (in), 15 DOUT (out), 16 SCLK (in)